# EAGLE library part 615008140621 (library USB3IO)
WR-MJ Horizontal Shielded With EMI Panel Finger 8P8C Modular Jack Tab Up, 8 Pins=>Code : Con_I-O_MJ-H_Shielded_Up_615008140621 <http://katalog.we-online.de/media/images/eican/Con_I-O_MJ-H_Shielded_Up_615008140621_pf2.jpg> Details see: http://katalog.we-online.de/en/em/615_008_140_621 Created 2014-07-09, Karrer Zheng 2014 (C) Würth Elektronik
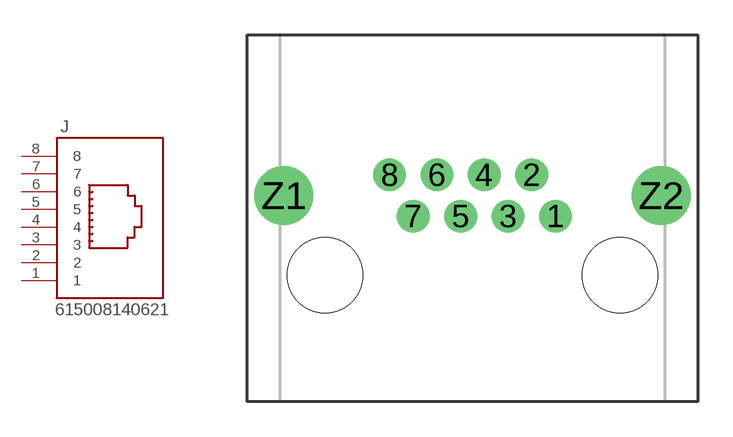
[diagram p114: symbol with the pads of 615008140621; footprint 615008140621]

Designator prefix J

## 615008140621  [615008140621]
1  1  pas
2  2  pas
3  3  pas
4  4  pas
5  5  pas
6  6  pas
7  7  pas
8  8  pas

## Footprint 615008140621 (pad centres in mm)
WR-MJ Horizontal Shielded With EMI Panel Finger 8P8C Modular Jack Tab Up, 8 Pins
drill 0.9: 1 3.57,-0.89; 2 2.55,0.89; 3 1.53,-0.89; 4 0.51,0.89; 5 -0.51,-0.89; 6 -1.53,0.89; 7 -2.55,-0.89; 8 -3.57,0.89
drill 1.7: Z1 -8.125,0; Z2 8.125,0
hole 3.25 at -6.35,-3.43
hole 3.25 at 6.35,-3.43